# Altium footprint library KMR2_1.PcbLib: 1 footprints
Each footprint in its own frame and in the unit in brackets; x right, y up, seen from the top. Pads: shape width x height; smd on the part's side, far side on the other; paste and mask are expansions set on the pad; w line width, h text height; cw(c..) or ccw(c..) is an arc to the next point about the centre after c.
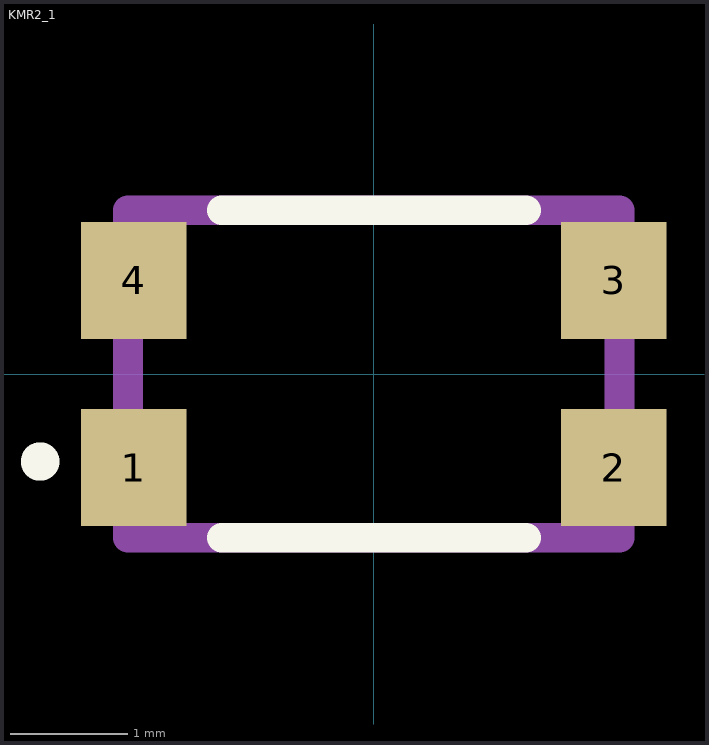
[diagram p0: the footprint, top view; thin cyan lines are the x and y axes]

## KMR2_1 [mm]
pads (4):
  rect 0.9x1 smd: 1(-2.05,-0.8) 2(2.05,-0.8) 3(2.05,0.8) 4(-2.05,0.8)
L26-Silk Screen Top (Multiple PADS layers...):
  circle w0.254: c-2.851,-0.748 r0.037
  lines w0.254: -1.3,-1.4 1.3,-1.4 ; -1.3,1.4 1.3,1.4
L15 (Multiple PADS layers...):
  lines w0.254: -2.1,-1.4 2.1,-1.4 2.1,1.4 -2.1,1.4 -2.1,-1.4